# Altium footprint library ESP32 Platform.PcbLib: 36 footprints (part 1 of 3)
Each footprint in its own frame and in the unit in brackets; x right, y up, seen from the top. Pads: shape width x height; smd on the part's side, far side on the other; paste and mask are expansions set on the pad; w line width, h text height; cw(c..) or ccw(c..) is an arc to the next point about the centre after c.
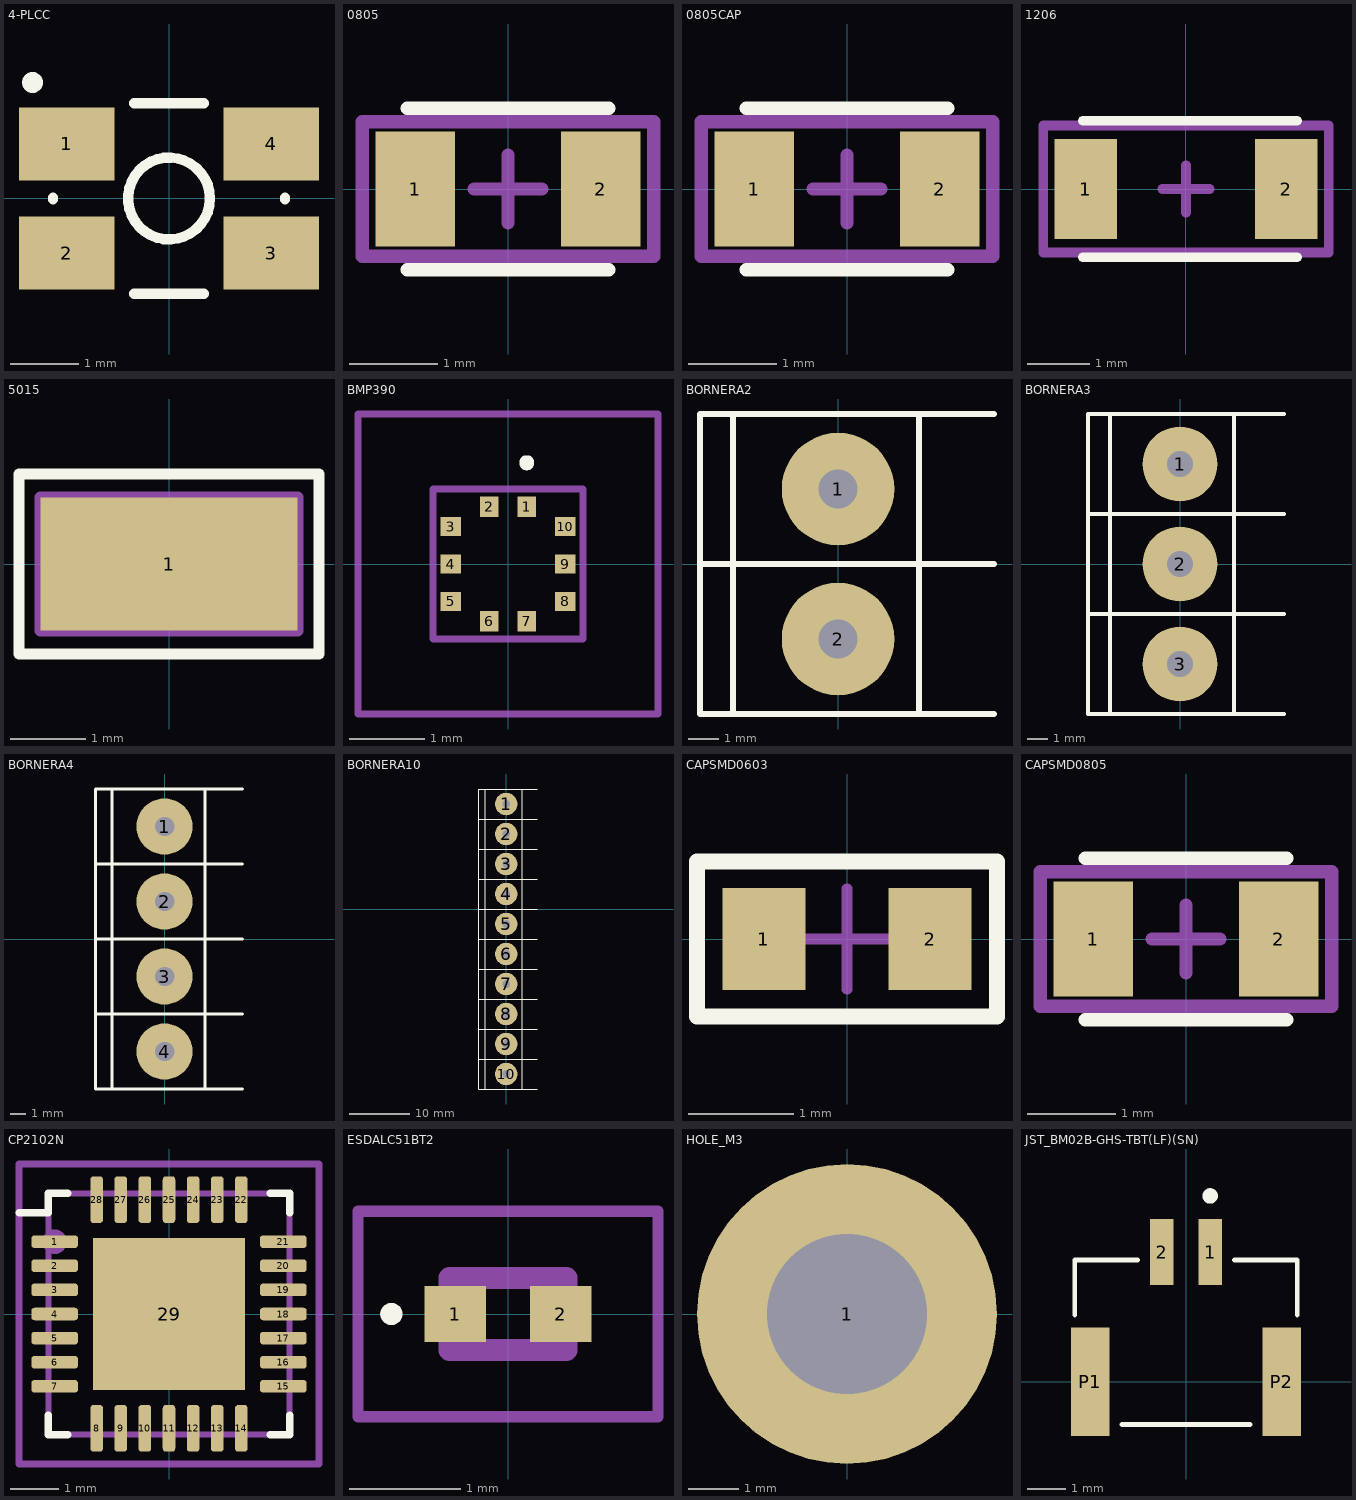
[diagram p0: the footprints below, top view; thin cyan lines are the x and y axes]

## 4-PLCC [mm] "3.2 x 2.8 mm"
pads (4):
  rect 1.397x1.067 smd mask+0.051: 1(-1.5,0.8) 2(-1.5,-0.8) 3(1.5,-0.8) 4(1.5,0.8)
Top Overlay:
  circle w0.152: c-2,1.7 r0.076
  circle w0.152: c0,0 r0.6
  lines w0.152: -1.7,-0.013 -1.7,0.013 ; -0.508,-1.397 0.508,-1.397 ; -0.508,1.397 0.508,1.397 ; 1.7,-0.013 1.7,0.013
3D body "User Library-Osram_Led_PLCC4-2.step": height 1.95, standoff 0, extent -1.75,-1.4 1.75,1.4

## 0805 [mm]
pads (2):
  rect 0.9x1.3 smd: 1(-1.05,0) 2(1.05,0)
Top Overlay:
  lines w0.152: -1.143,-0.914 1.143,-0.914 ; -1.143,0.914 1.143,0.914
Bottom Assembly:
  lines w0.152: -1.651,-0.762 1.651,-0.762 1.651,0.762 -1.651,0.762 -1.651,-0.762
  text ".Designator" at -3.174,-0.212 h0.64
Mechanical 15:
  lines w0.152: -0.381,0 0.381,0 ; 0,-0.381 0,0.381
3D body "RC0805FR-7W1K5L.STEP": height 0.58, standoff -0.02, extent -1,-0.625 1,0.625

## 0805CAP [mm]
pads (2):
  rect 0.9x1.3 smd: 1(-1.05,0) 2(1.05,0)
Top Overlay:
  lines w0.152: -1.143,-0.914 1.143,-0.914 ; -1.143,0.914 1.143,0.914
Bottom Assembly:
  lines w0.152: -1.651,-0.762 -1.651,0.762 1.651,0.762 1.651,-0.762 -1.651,-0.762
  text ".Designator" at -3.174,-0.212 h0.64
Mechanical 15:
  lines w0.152: -0.381,0 0.381,0 ; 0,-0.381 0,0.381
3D body "RC0805FR-7W1K5L.STEP": height 0.58, standoff -0.02, extent -1,-0.625 1,0.625

## 1206 [mm]
pads (2):
  rect 1x1.6 smd: 1(-1.6,0) 2(1.6,0)
Top Overlay:
  lines w0.152: -1.651,-1.092 1.778,-1.092 ; -1.651,1.092 1.778,1.092
Bottom Assembly:
  lines w0.152: -2.286,-1.016 2.286,-1.016 2.286,1.016 -2.286,1.016 -2.286,-1.016
  text ".Designator" at -3.174,-0.212 h0.64
Mechanical 15:
  lines w0.152: -0.381,0 0.381,0 ; 0,-0.381 0,0.381
3D body "PTS1206_VIS.step": height 0.56, standoff 0, extent -1.524,-0.8 1.524,0.8

## 5015 [mil]
pads (1):
  rect 135x70 smd: 1(0,0)
Top Overlay:
  lines w6: -78.74,-47.24 -78.74,47.24 78.74,47.24 78.74,-47.24 -78.74,-47.24
Bottom Assembly:
  lines w6: -67.5,-35 -67.5,35 67.5,35 67.5,-35 -67.5,-35
  text ".Designator" at -124.96,-8.33 h25
Mechanical 15:
  lines w6: -15,0 15,0 ; 0,-15 0,15
3D body "5015--3DModel-STEP-269445.STEP": height 60, standoff 0, extent -52.48,-20 52.48,20

## BMP390 [mm]
pads (10):
  rect 0.25x0.275 smd: 1(0.25,0.763) 2(-0.25,0.763) 6(-0.25,-0.763) 7(0.25,-0.763)
  rect 0.275x0.25 smd: 3(-0.762,0.5) 4(-0.762,0) 5(-0.762,-0.5) 8(0.762,-0.5) 9(0.762,0) 10(0.762,0.5)
Top Overlay:
  lines w0.1: 0.25,1.3 ccw(c0.25,1.35) 0.25,1.4 ccw(c0.25,1.35) 0.25,1.3
Mechanical 15:
  lines w0.1: -1,-1 -1,1 1,1 1,-1 -1,-1
Mechanical 20:
  lines w0.1: -2,-2 -2,2 2,2 2,-2 -2,-2
3D body "BMP390.step": height 0.75, standoff 0, extent -1,-1.016 1,0.984

## BORNERA2 [mm] "Bornera con Tornillos 5mm separación"
pads (2):
  round 3.75 hole 1.3: 1(0,2.5) 2(0,-2.5)
Top Overlay:
  lines w0.2: -4.6,0 5.2,0 ; -3.5,-5 -3.5,5 ; 2.7,-5 2.7,5 ; 5.2,-5 -4.6,-5 -4.6,5 5.2,5
3D body "BORNERA_2.step": height 10, standoff -2.28, extent -3.763,-4.892 3.937,5.607

## BORNERA3 [mm] "Bornera con Tornillos 5mm separación"
pads (3):
  round 3.75 hole 1.3: 1(0,5) 2(0,0) 3(0,-5)
Top Overlay:
  lines w0.2: -4.6,-2.5 5.2,-2.5 ; -4.6,2.5 5.2,2.5 ; -3.5,-7.5 -3.5,7.5 ; 2.7,-7.5 2.7,7.5 ; 5.2,-7.5 -4.6,-7.5 -4.6,7.5 5.2,7.5
3D body "BORNERA_3.step": height 10.05, standoff -2.24, extent -3.763,-7.392 3.937,8.107

## BORNERA4 [mm] "Bornera con Tornillos 5mm separación"
pads (4):
  round 3.75 hole 1.3: 1(0,7.5) 2(0,2.5) 3(0,-2.5) 4(0,-7.5)
Top Overlay:
  lines w0.2: -4.6,-5 5.2,-5 ; -4.6,0 5.2,0 ; -4.6,5 5.2,5 ; -3.5,-10 -3.5,10 ; 2.7,-10 2.7,10 ; 5.2,-10 -4.6,-10 -4.6,10 5.2,10
3D body "BORNERA_2.step": height 10, standoff -2.28, extent -3.763,0.108 3.937,10.607
3D body "BORNERA_2.step": height 10, standoff -2.28, extent -3.763,-9.892 3.937,0.607

## BORNERA10 [mm] "Bornera con Tornillos 5mm separación"
pads (10):
  round 3.75 hole 1.3: 1(0,17.5) 2(0,12.5) 3(0,7.5) 4(0,2.5) 5(0,-2.5) 6(0,-7.5) 7(0,-12.5) 8(0,-17.5) 9(0,-22.5) 10(0,-27.5)
Top Overlay:
  lines w0.2: -4.6,-25 5.2,-25 ; -4.6,-20 5.2,-20 ; -4.6,-15 5.2,-15 ; -4.6,-10 5.2,-10 ; -4.6,-5 5.2,-5 ; -4.6,0 5.2,0 ; -4.6,5 5.2,5 ; -4.6,10 5.2,10 ; -4.6,15 5.2,15 ; -3.5,-30 -3.5,20 ; 2.7,-30 2.7,20 ; 5.2,-30 -4.6,-30 -4.6,20 5.2,20
3D body "BORNERA_2.step": height 10, standoff -2.28, extent -3.763,0.108 3.937,10.607
3D body "BORNERA_2.step": height 10, standoff -2.28, extent -3.763,10.108 3.937,20.608
3D body "BORNERA_2.step": height 10, standoff -2.28, extent -3.763,-9.892 3.937,0.607
3D body "BORNERA_2.step": height 10, standoff -2.28, extent -3.763,-19.893 3.937,-9.393
3D body "BORNERA_2.step": height 10, standoff -2.28, extent -3.763,-29.893 3.937,-19.393

## CAPSMD0603 [mil] "Pasivo 0603"
height 21.65
pads (2):
  rect 31x38 smd: 1(-31,0) 2(31,0)
Top Overlay:
  lines w6: -56,-29 56,-29 56,29 -56,29 -56,-29
Mechanical 15:
  lines w3.94: -18.7,0 18.7,0 ; 0,-18.7 0,18.7

## CAPSMD0805 [mm] "Pasivo 0805"
height 0.7
pads (2):
  rect 0.9x1.3 smd: 1(-1.05,0) 2(1.05,0)
Top Overlay:
  lines w0.152: -1.143,-0.914 1.143,-0.914 ; -1.143,0.914 1.143,0.914
Bottom Assembly:
  lines w0.152: -1.651,-0.762 -1.651,0.762 1.651,0.762 1.651,-0.762 -1.651,-0.762
  text ".Designator" at -3.174,-0.212 h0.64
Mechanical 15:
  lines w0.152: -0.381,0 0.381,0 ; 0,-0.381 0,0.381
3D body "User Library-Chip Cap_MLCC_0805 (2012)_B.step": height 0.8, standoff 0, extent -0.99,-0.635 1.009,0.615

## CP2102N [mm]
pads (29):
  rrect50% 0.97x0.26 smd: 1(-2.37,1.5) 2(-2.37,1) 3(-2.37,0.5) 4(-2.37,0) 5(-2.37,-0.5) 6(-2.37,-1) 7(-2.37,-1.5) 15(2.37,-1.5) 16(2.37,-1) 17(2.37,-0.5) 18(2.37,0) 19(2.37,0.5) 20(2.37,1) 21(2.37,1.5)
  rrect50% 0.26x0.97 smd: 8(-1.5,-2.37) 9(-1,-2.37) 10(-0.5,-2.37) 11(0,-2.37) 12(0.5,-2.37) 13(1,-2.37) 14(1.5,-2.37) 22(1.5,2.37) 23(1,2.37) 24(0.5,2.37) 25(0,2.37) 26(-0.5,2.37) 27(-1,2.37) 28(-1.5,2.37)
  rect 3.15x3.15 smd paste-0.585: 29(0,0)
Top Overlay:
  lines w0.152: -3.11,2.1 -2.5,2.1 -2.5,2.5 -2.1,2.5 ; -2.5,-2.1 -2.5,-2.5 -2.1,-2.5 ; 2.1,-2.5 2.5,-2.5 2.5,-2.1 ; 2.1,2.5 2.5,2.5 2.5,2.1
Bottom Assembly:
  circle w0.254: c-2.37,1.5 r0.127
  lines w0.152: -3.11,-3.11 -3.11,3.11 3.11,3.11 3.11,-3.11 -3.11,-3.11
  text ".Designator" at -3.174,-0.212 h0.64
Mechanical 13:
  lines w0.127: -2.5,-2.5 2.5,-2.5 2.5,2.5 -2.5,2.5 -2.5,-2.5
Mechanical 15:
  lines w0.152: -0.381,0 0.381,0 ; 0,-0.381 0,0.381
3D body "CP2102GM.STEP": height 1, standoff 0, extent -2.5,-2.5 2.5,2.5

## ESDALC51BT2 [mm]
pads (2):
  rect 0.55x0.5 smd: 1(-0.475,0) 2(0.475,0)
Top Overlay:
  lines w0.1: -1.1,0 ccw(c-1.05,0) -1,0 ccw(c-1.05,0) -1.1,0
Mechanical 15:
  lines w0.2: -0.525,-0.325 0.525,-0.325 0.525,0.325 -0.525,0.325 -0.525,-0.325
Mechanical 20:
  lines w0.1: -1.35,-0.925 1.35,-0.925 1.35,0.925 -1.35,0.925 -1.35,-0.925
3D body "SOD882.step": height 0.45, standoff -0.02, extent -0.5,-0.3 0.5,0.3

## HOLE_M3 [mm]
pads (1):
  round 6 hole 3.2: 1(0,0)

## JST_BM02B-GHS-TBT(LF)(SN) [mm]
pads (4):
  rect 0.6x1.7 smd: 1(0.625,3.35) 2(-0.625,3.35)
  rect 1x2.8 smd: P1(-2.475,0) P2(2.475,0)
Top Overlay:
  circle w0.2: c0.625,4.8 r0.1
  lines w0.127: -2.875,1.72 -2.875,3.15 -1.25,3.15 ; -1.65,-1.1 1.65,-1.1 ; 1.25,3.15 2.875,3.15 2.875,1.72